# Altium schematic symbol library KF2510.SchLib: 2 symbols
Pins are listed as number, name and electrical type; pins without a type are passive.

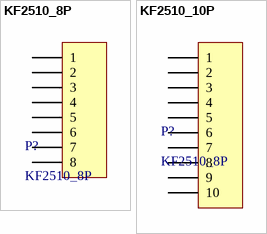
[diagram p0: symbols KF2510_8P to KF2510_10P]

## KF2510_8P
designator P?
footprint KF2510_8P
pins: 1, 2, 3, 4, 5, 6, 7, 8

## KF2510_10P
designator P?, comment KF2510_8P
pins: 1, 2, 3, 4, 5, 6, 7, 8, 9, 10